# EAGLE library part MMA845X (library Freescale_Sensors_v2)
Xtrinsic MMA8451Q 3-Axis, 14-bit/8-bit Digital Accelerometer 16 PIN QFN 3 mm by 3 mm by 1 mm CASE 2077-02
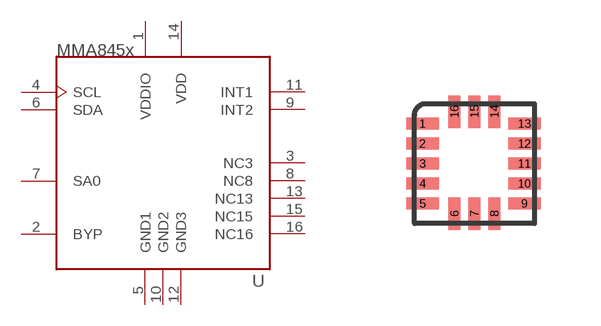
[diagram p0: symbol with the pads of QFN5X3_0P5_3X3; footprint QFN5X3_0P5_3X3]

Designator prefix MMA845X

## MMA845X  [QFN5X3_0P5_3X3]
1  VDDIO  pwr
2  BYP  in
3  NC3  nc
4  SCL  oc
5  GND1  pwr
6  SDA  oc
7  SA0  in
8  NC8  nc
9  INT2  out
10  GND2  pwr
11  INT1  out
12  GND3  pwr
13  NC13  nc
14  VDD  pwr
15  NC15  nc
16  NC16  nc

## Footprint QFN5X3_0P5_3X3 (pad centres in mm)
smd 0.813 x 0.305: 1 -1.3,1; 2 -1.3,0.5; 3 -1.3,0; 4 -1.3,-0.5; 5 -1.3,-1; 9 1.25,-1; 10 1.25,-0.5; 11 1.25,0; 12 1.25,0.5; 13 1.25,1
smd 0.305 x 0.813: 6 -0.5,-1.25; 7 0,-1.25; 8 0.5,-1.25; 14 0.5,1.3; 15 0,1.3; 16 -0.5,1.3